# Altium schematic symbol library AP63205.SchLib: 1 symbol
Pins are listed as number, name and electrical type; pins without a type are passive.

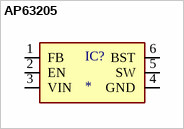
[diagram p0: symbol AP63205]

## AP63205
designator IC?
MP: AP63205; MF: Diodes Zetex; Package: None; Value: *; SnapEDA_Link: https://www.snapeda.com/parts/AP63205/Zetex/view-part/?ref=snap; Check_prices: https://www.snapeda.com/parts/AP63205/Zetex/view-part/?ref=eda
footprint TSOT23-6
pins: 1 FB (io), 2 EN (io), 3 VIN (io), 4 GND (io), 5 SW (io), 6 BST (io)